# EAGLE library part W25X40CLUXIG (library flash-chips)
FLASH Memory IC 4Mb (512K x 8) SPI 104MHz 8-USON (2x3)
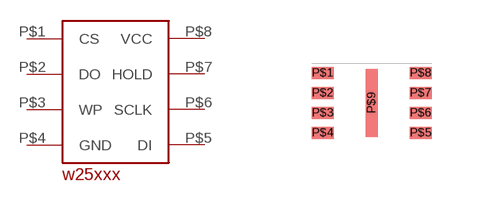
[diagram p1: symbol with the pads of USON8; footprint USON8]

Designator prefix -

## W25X40CLUXIG (CHECKED: NC)  [USON8]
P$1  CS
P$2  DO
P$3  WP
P$4  GND
P$5  DI
P$6  SCLK
P$7  HOLD
P$8  VCC

## Footprint USON8 (pad centres in mm)
smd 0.55 x 0.3: P$1 -1.225,0.75; P$2 -1.225,0.25; P$3 -1.225,-0.25; P$4 -1.225,-0.75; P$5 1.225,-0.75; P$6 1.225,-0.25; P$7 1.225,0.25; P$8 1.225,0.75
smd 0.3 x 1.7: P$9 0,0